# Altium footprint library PcbLib1.PcbLib: 7 footprints
Each footprint in its own frame and in the unit in brackets; x right, y up, seen from the top. Pads: shape width x height; smd on the part's side, far side on the other; paste and mask are expansions set on the pad; w line width, h text height; cw(c..) or ccw(c..) is an arc to the next point about the centre after c.
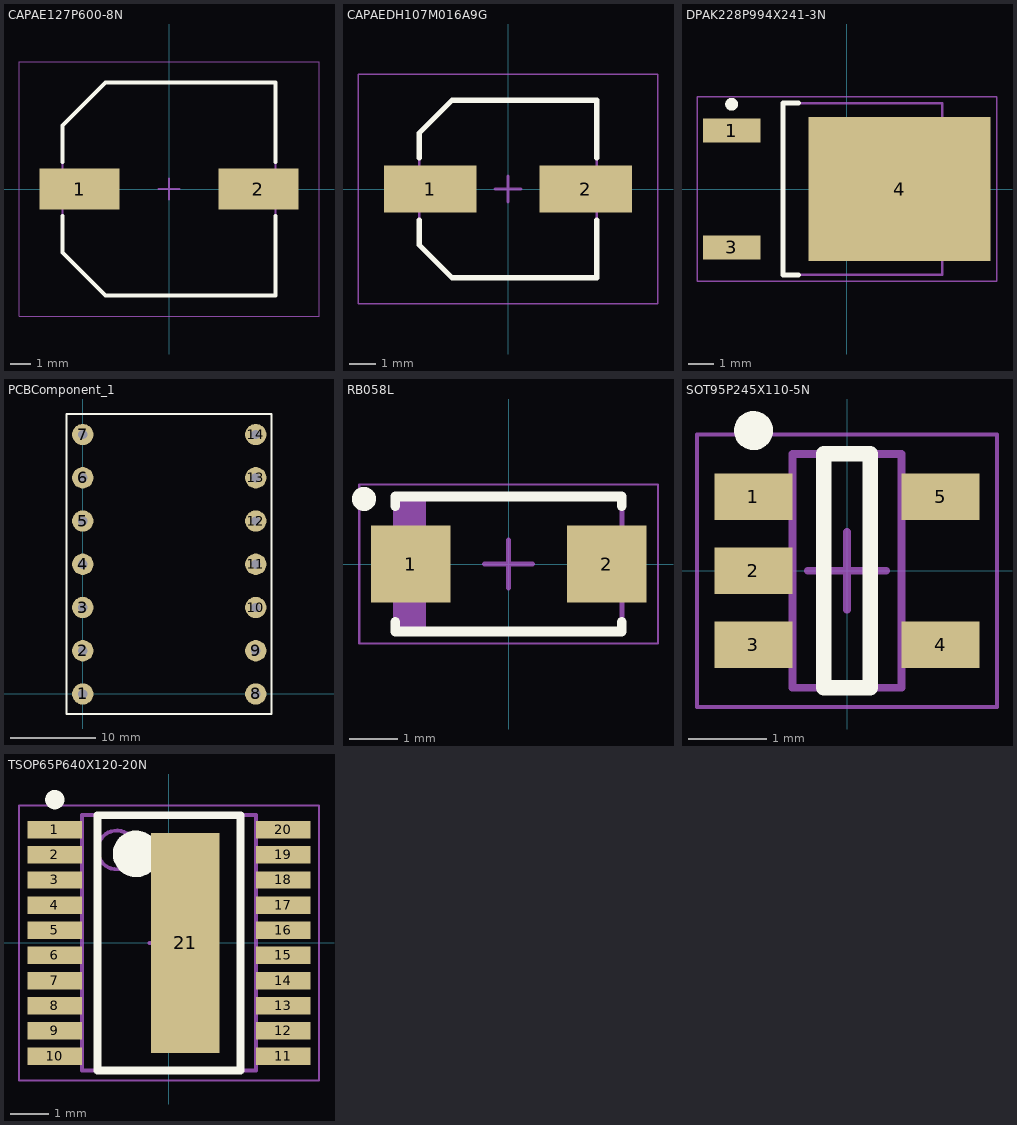
[diagram p0: the footprints below, top view; thin cyan lines are the x and y axes]

## CAPAE127P600-8N [mm]
height 13.5
pads (2):
  rect 3.85x2 smd: 1(-4.325,0) 2(4.325,0)
Top Overlay:
  lines w0.2: -5.15,-1.3 -5.15,-3.075 -3.075,-5.15 5.15,-5.15 5.15,-1.3 ; -5.15,1.3 -5.15,3.075 -3.075,5.15 5.15,5.15 5.15,1.3
Mechanical 13:
  lines w0.1: -5.15,-3.075 -5.15,3.075 -3.075,5.15 5.15,5.15 5.15,-5.15 -3.075,-5.15 -5.15,-3.075
Mechanical 15:
  lines w0.05: -7.25,-6.15 7.25,-6.15 7.25,6.15 -7.25,6.15 -7.25,-6.15
  lines w0.1: -0.5,0 0.5,0 ; 0,-0.5 0,0.5
3D body: height 13.5, standoff 0, extent -5,-5 5,5
3D body: height 4.5, standoff 0, extent -5.15,-5.15 5.15,5.15

## CAPAEDH107M016A9G [mm] "Aluminum Electrolytic Capacitor, Body 6,60x6,60x6,30mm, IPC Low Density"
height 6.3
pads (2):
  rect 3.55x1.8 smd: 1(-2.975,0) 2(2.975,0)
Top Overlay:
  lines w0.2: -3.4,-1.2 -3.4,-2.15 -2.15,-3.4 3.4,-3.4 3.4,-1.2 ; -3.4,1.2 -3.4,2.15 -2.15,3.4 3.4,3.4 3.4,1.2
Mechanical 13:
  lines w0.1: -3.4,-2.15 -2.15,-3.4 3.4,-3.4 3.4,3.4 -2.15,3.4 -3.4,2.15 -3.4,-2.15
Mechanical 15:
  lines w0.05: -5.75,-4.4 -5.75,4.4 5.75,4.4 5.75,-4.4 -5.75,-4.4
  lines w0.1: -0.5,0 0.5,0 ; 0,-0.5 0,0.5
3D body: height 2.1, standoff 0, extent -3.4,-3.4 3.4,3.4
3D body: height 6.3, standoff 0, extent -3.4,-3.4 3.4,3.4

## DPAK228P994X241-3N [mm] "D-PAK, 3-Pads, Body 6,21x6,72mm (max), IPC Medium Density"
height 2.41
pads (3):
  rect 2.25x0.95 smd: 1(-4.5,2.28) 3(-4.5,-2.28)
  rect 7.1x5.6 smd: 4(2.05,0)
Top Overlay:
  circle w0.25: c-4.5,3.305 r0.125
  lines w0.2: -1.9,-3.35 -2.5,-3.35 -2.5,3.35 -1.9,3.35
Mechanical 13:
  lines w0.1: -2.5,-3.35 -2.5,3.35 3.72,3.35 3.72,-3.35 -2.5,-3.35
Mechanical 15:
  lines w0.05: -5.85,-3.6 -5.85,3.6 5.85,3.6 5.85,-3.6 -5.85,-3.6
  lines w0.1: -0.5,0 0.5,0 ; 0,-0.5 0,0.5
3D body "User Library-DPAK-1.step": height 2.39, standoff -0.02, extent -4.858,-3.175 5.08,3.365

## PCBComponent_1 [mm]
pads (14):
  round 2.5 hole 1.1: 1(0,0) 2(0,5.08) 3(0,10.16) 4(0,15.24) 5(0,20.32) 6(0,25.4) 7(0,30.48) 8(20.32,0) 9(20.32,5.08) 10(20.32,10.16) 11(20.32,15.24) 12(20.32,20.32) 13(20.32,25.4) 14(20.32,30.48)
Top Overlay:
  lines w0.254: -1.905,-2.351 22.16,-2.351 22.16,32.893 -1.905,32.893 -1.905,-2.351
3D body "User Library-EDT29_V.STEP": height 40.47, standoff -3.48, extent -1.84,-2.413 22.16,32.787

## RB058L [mm] "Molded Capacitor, 2-Leads, Body 4,50x2,60mm, IPC Medium Density"
height 2.2
pads (2):
  rect 1.65x1.6 smd: 1(-2.032,0) 2(2.032,0)
Top Overlay:
  circle w0.25: c-3,1.35 r0.125
  lines w0.2: -2.35,-1.2 -2.35,-1.4 2.35,-1.4 2.35,-1.2 ; -2.35,1.2 -2.35,1.4 2.35,1.4 2.35,1.2
Mechanical 13:
  rectangle: -2.35,-1.4 -1.718,1.4
  lines w0.1: -2.35,-1.4 -2.35,1.4 2.35,1.4 2.35,-1.4 -2.35,-1.4
Mechanical 15:
  lines w0.05: -3.1,-1.65 -3.1,1.65 3.1,1.65 3.1,-1.65 -3.1,-1.65
  lines w0.1: -0.5,0 0.5,0 ; 0,-0.5 0,0.5
3D body "User Library-DO-214AC(SMA).step": height 2.34, standoff 0.06, extent -2.743,-1.397 2.743,1.397

## SOT95P245X110-5N [mm] "SOT23, 5-Leads, Body 2,90x2,45mm, Pitch 0,95mm, IPC Medium Density"
height 1.1
pads (5):
  rect 1x0.6 smd: 1(-1.2,0.95) 2(-1.2,0) 3(-1.2,-0.95) 4(1.2,-0.95) 5(1.2,0.95)
Top Overlay:
  circle w0.25: c-1.2,1.8 r0.125
  lines w0.2: -0.3,-1.5 0.3,-1.5 0.3,1.5 -0.3,1.5 -0.3,-1.5
Mechanical 13:
  lines w0.1: -0.7,-1.5 -0.7,1.5 0.7,1.5 0.7,-1.5 -0.7,-1.5
Mechanical 15:
  lines w0.05: -1.925,-1.75 -1.925,1.75 1.925,1.75 1.925,-1.75 -1.925,-1.75
  lines w0.1: -0.5,0 0.5,0 ; 0,-0.5 0,0.5
3D body: height 1.1, standoff 0.05, extent -0.7,-1.5 0.7,1.5

## TSOP65P640X120-20N [mm] "TSOP, 20-Leads, Body 6,50x4,40mm, Pitch 0,65mm, IPC Medium Density"
height 1.2
pads (21):
  rect 1.4x0.45 smd mask+0.05: 1(-2.95,2.925) 2(-2.95,2.275) 3(-2.95,1.625) 4(-2.95,0.975) 5(-2.95,0.325) 6(-2.95,-0.325) 7(-2.95,-0.975) 8(-2.95,-1.625) 9(-2.95,-2.275) 10(-2.95,-2.925) 11(2.95,-2.925) 12(2.95,-2.275) 13(2.95,-1.625) 14(2.95,-0.975) 15(2.95,-0.325) 16(2.95,0.325) 17(2.95,0.975) 18(2.95,1.625) 19(2.95,2.275) 20(2.95,2.925)
  rect 1.78x5.68 smd: 21(0.42,0)
Top Overlay:
  circle w0.25: c-2.95,3.7 r0.125
  circle w0.6: c-0.85,2.3 r0.3
  lines w0.2: -1.85,-3.3 -1.85,3.3 1.85,3.3 1.85,-3.3 -1.85,-3.3
Mechanical 13:
  circle w0.1: c-1.35,2.4 r0.5
  lines w0.1: -2.25,-3.3 -2.25,3.3 2.25,3.3 2.25,-3.3 -2.25,-3.3
Mechanical 15:
  lines w0.05: -3.875,-3.55 -3.875,3.55 3.875,3.55 3.875,-3.55 -3.875,-3.55
  lines w0.1: -0.5,0 0.5,0 ; 0,-0.5 0,0.5
3D body "TSOP65P640X120-20N.step": height 1.2, standoff 0, extent -3.2,-3.3 3.2,3.3